# Altium integrated library Analog Devices Data Converters Analog-to-Digital Converters.IntLib: 2404 symbols (part 261 of 346)
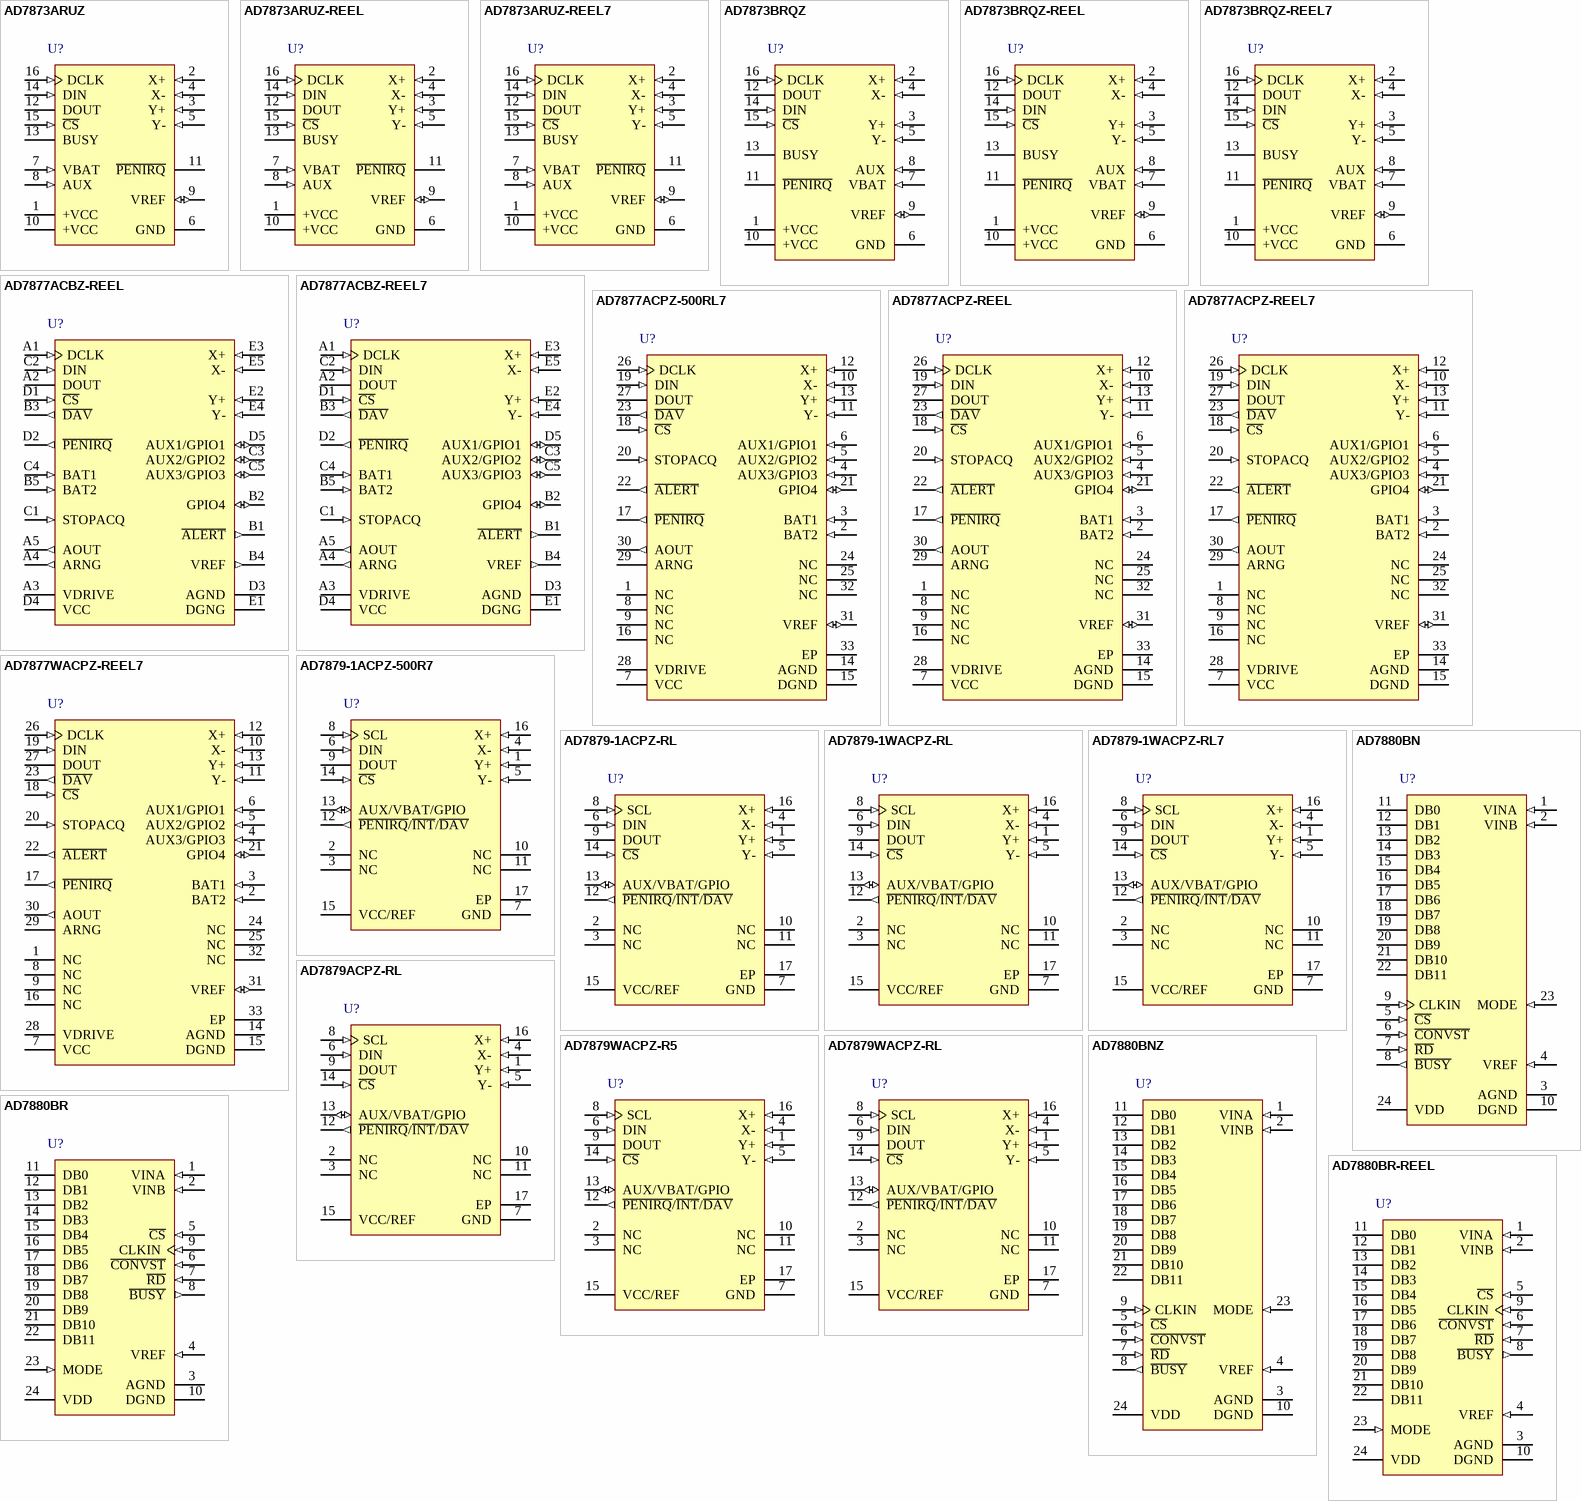
[diagram p393: symbols AD7873ARUZ to AD7880BR-REEL]

## AD7879ACPZ-RL
designator U?
6 Channel 12-Bit Analog-to-Digital Converter for Touch Screens with I2C/Ser 2-Wire, Serial, SPI Interface, 105KSPS, -40 to +85 degC, CP-16-10, Pb-Free, Reel; Generic Part Number: AD7879; Manufacturer: Analog Devices; PartNumber: AD7879ACPZ-RL; Resolution (Bits): 12; Channels: 6; Throughput Rate (SPS): 105K; Interface: I2C/Ser 2-Wire, Ser, SPI; DatasheetVersion: Rev.C; PackageVersion: 010606-0; PackageReference: CP-16-10; PackageDescription: 16-Lead Lead Frame Chip Scale Package [LFCSP_VQ] 4 x 4 mm Body, Very Thin Quad; Supplier 1: Digi-Key; Supplier Part Number 1: AD7879ACPZ-RLTR-ND; Supplier 2: Digi-Key; Supplier Part Number 2: AD7879ACPZ-RLCT-ND; Supplier 3: Digi-Key; Supplier Part Number 3: AD7879ACPZ-RLDKR-ND; Supplier 4: Newark; Supplier Part Number 4: 34P3199; Supplier 5: Mouser; Supplier Part Number 5: 584-AD7879ACPZ-R; RoHS: Y; Packing: Reel; Mounting Technology: Surface Mount; Code_JEDEC: MO-220-VGGC; ComponentLink1Description: Manufacturer URL; ComponentLink1URL: http://www.analog.com/en/index.html; ComponentLink2Description: Datasheet; ComponentLink2URL: http://www.analog.com/static/imported-files/data_sheets/AD7879_7889.pdf; ComponentLink3Description: Package Specification; ComponentLink3URL: http://www.analog.com/static/imported-files/packages/PKG_PDF/LFCSP(CP)/CP_16_10.pdf; ComponentLink4Description: Product URL; ComponentLink4URL: http://www.analog.com/en/analog-to-digital-converters/ad-converters/ad7879/products/product.html
footprint CP-16-10_N (QFN, 16-Leads, Body 4x4mm, Pitch 0.65mm, Thermal Pad 2.35x2.35mm, IPC Medium Density)
footprint CP-16-10_L (QFN, 16-Leads, Body 4x4mm, Pitch 0.65mm, Thermal Pad 2.35x2.35mm, IPC High Density)
footprint CP-16-10_M (QFN, 16-Leads, Body 4x4mm, Pitch 0.65mm, Thermal Pad 2.35x2.35mm, IPC Low Density)
pins: 1 Y+ (in) "Touch Screen Input Channel.", 2 NC "No Connect.", 3 NC "No Connect.", 4 X- (in) "Touch Screen Input Channel.", 5 Y- (in) "Touch Screen Input Channel.", 6 DIN (in) "SPI Serial Data Input to the AD7879.", 7 GND (power) "Ground. Ground reference point for all circuitry on the AD7879. All analog input signals and any external reference signal should be referred to this voltage.", 8 SCL (in) "Serial Interface Clock Input.", 9 DOUT (hiz) "SPI Serial Data Output for the AD7879.", 10 NC "No Connect.", 11 NC "No Connect.", 12 ~{PENIRQ}/~{INT}/~{DAV} (out) "Interrupt Output. This pin is asserted when the screen is touched (P\E\N\I\R\Q\), when a measurement exceeds the preprogrammed limits (I\N\T\), or when new data is available in the registers (D\A\V\). Active low, internal 50 (See Datasheet)", 13 AUX/VBAT/GPIO (io) "This pin can be programmed as an auxiliary input to the ADC (AUX), as a battery measurement input to the ADC (VBAT ), or as a general-purpose digital input/output (GPIO).", 14 ~{CS} (in) "Chip Select for the SPI Serial Interface on the AD7879. Active low.", 15 VCC/REF (power) "Power Supply Input and ADC Reference.", 16 X+ (in) "Touch Screen Input Channel.", 17 EP (power) "Exposed Pad. The exposed pad is not connected internally. For increased reliability of the solder joints and maximum thermal capability, it is recommended that the pad be soldered to the ground plane."

## AD7879WACPZ-R5
designator U?
6 Channel 12-Bit Analog-to-Digital Converter for Touch Screens with I2C/Ser 2-Wire, Serial, SPI Interface, 105KSPS, -40 to +85 degC, CP-16-10, Pb-Free, Reel; Generic Part Number: AD7879; Manufacturer: Analog Devices; PartNumber: AD7879WACPZ-R5; Resolution (Bits): 12; Channels: 6; Throughput Rate (SPS): 105K; Interface: I2C/Ser 2-Wire, Ser, SPI; DatasheetVersion: Rev.C; PackageVersion: 010606-0; PackageReference: CP-16-10; PackageDescription: 16-Lead Lead Frame Chip Scale Package [LFCSP_VQ] 4 x 4 mm Body, Very Thin Quad; Supplier 1: Mouser; Supplier Part Number 1: N/A; RoHS: Y; Packing: Reel; Mounting Technology: Surface Mount; Code_JEDEC: MO-220-VGGC; ComponentLink1Description: Manufacturer URL; ComponentLink1URL: http://www.analog.com/en/index.html; ComponentLink2Description: Datasheet; ComponentLink2URL: http://www.analog.com/static/imported-files/data_sheets/AD7879_7889.pdf; ComponentLink3Description: Package Specification; ComponentLink3URL: http://www.analog.com/static/imported-files/packages/PKG_PDF/LFCSP(CP)/CP_16_10.pdf; ComponentLink4Description: Product URL; ComponentLink4URL: http://www.analog.com/en/analog-to-digital-converters/ad-converters/ad7879/products/product.html
footprint CP-16-10_N (QFN, 16-Leads, Body 4x4mm, Pitch 0.65mm, Thermal Pad 2.35x2.35mm, IPC Medium Density)
footprint CP-16-10_L (QFN, 16-Leads, Body 4x4mm, Pitch 0.65mm, Thermal Pad 2.35x2.35mm, IPC High Density)
footprint CP-16-10_M (QFN, 16-Leads, Body 4x4mm, Pitch 0.65mm, Thermal Pad 2.35x2.35mm, IPC Low Density)
pins: 1 Y+ (in) "Touch Screen Input Channel.", 2 NC "No Connect.", 3 NC "No Connect.", 4 X- (in) "Touch Screen Input Channel.", 5 Y- (in) "Touch Screen Input Channel.", 6 DIN (in) "SPI Serial Data Input to the AD7879.", 7 GND (power) "Ground. Ground reference point for all circuitry on the AD7879. All analog input signals and any external reference signal should be referred to this voltage.", 8 SCL (in) "Serial Interface Clock Input.", 9 DOUT (hiz) "SPI Serial Data Output for the AD7879.", 10 NC "No Connect.", 11 NC "No Connect.", 12 ~{PENIRQ}/~{INT}/~{DAV} (out) "Interrupt Output. This pin is asserted when the screen is touched (P\E\N\I\R\Q\), when a measurement exceeds the preprogrammed limits (I\N\T\), or when new data is available in the registers (D\A\V\). Active low, internal 50 (See Datasheet)", 13 AUX/VBAT/GPIO (io) "This pin can be programmed as an auxiliary input to the ADC (AUX), as a battery measurement input to the ADC (VBAT ), or as a general-purpose digital input/output (GPIO).", 14 ~{CS} (in) "Chip Select for the SPI Serial Interface on the AD7879. Active low.", 15 VCC/REF (power) "Power Supply Input and ADC Reference.", 16 X+ (in) "Touch Screen Input Channel.", 17 EP (power) "Exposed Pad. The exposed pad is not connected internally. For increased reliability of the solder joints and maximum thermal capability, it is recommended that the pad be soldered to the ground plane."

## AD7879WACPZ-RL
designator U?
6 Channel 12-Bit Analog-to-Digital Converter for Touch Screens with I2C/Ser 2-Wire, Serial, SPI Interface, 105KSPS, -40 to +85 degC, CP-16-10, Pb-Free, Reel; Generic Part Number: AD7879; Manufacturer: Analog Devices; PartNumber: AD7879WACPZ-RL; Resolution (Bits): 12; Channels: 6; Throughput Rate (SPS): 105K; Interface: I2C/Ser 2-Wire, Ser, SPI; DatasheetVersion: Rev.C; PackageVersion: 010606-0; PackageReference: CP-16-10; PackageDescription: 16-Lead Lead Frame Chip Scale Package [LFCSP_VQ] 4 x 4 mm Body, Very Thin Quad; Supplier 1: Mouser; Supplier Part Number 1: N/A; RoHS: Y; Packing: Reel; Mounting Technology: Surface Mount; Code_JEDEC: MO-220-VGGC; ComponentLink1Description: Manufacturer URL; ComponentLink1URL: http://www.analog.com/en/index.html; ComponentLink2Description: Datasheet; ComponentLink2URL: http://www.analog.com/static/imported-files/data_sheets/AD7879_7889.pdf; ComponentLink3Description: Package Specification; ComponentLink3URL: http://www.analog.com/static/imported-files/packages/PKG_PDF/LFCSP(CP)/CP_16_10.pdf; ComponentLink4Description: Product URL; ComponentLink4URL: http://www.analog.com/en/analog-to-digital-converters/ad-converters/ad7879/products/product.html
footprint CP-16-10_N (QFN, 16-Leads, Body 4x4mm, Pitch 0.65mm, Thermal Pad 2.35x2.35mm, IPC Medium Density)
footprint CP-16-10_L (QFN, 16-Leads, Body 4x4mm, Pitch 0.65mm, Thermal Pad 2.35x2.35mm, IPC High Density)
footprint CP-16-10_M (QFN, 16-Leads, Body 4x4mm, Pitch 0.65mm, Thermal Pad 2.35x2.35mm, IPC Low Density)
pins: 1 Y+ (in) "Touch Screen Input Channel.", 2 NC "No Connect.", 3 NC "No Connect.", 4 X- (in) "Touch Screen Input Channel.", 5 Y- (in) "Touch Screen Input Channel.", 6 DIN (in) "SPI Serial Data Input to the AD7879.", 7 GND (power) "Ground. Ground reference point for all circuitry on the AD7879. All analog input signals and any external reference signal should be referred to this voltage.", 8 SCL (in) "Serial Interface Clock Input.", 9 DOUT (hiz) "SPI Serial Data Output for the AD7879.", 10 NC "No Connect.", 11 NC "No Connect.", 12 ~{PENIRQ}/~{INT}/~{DAV} (out) "Interrupt Output. This pin is asserted when the screen is touched (P\E\N\I\R\Q\), when a measurement exceeds the preprogrammed limits (I\N\T\), or when new data is available in the registers (D\A\V\). Active low, internal 50 (See Datasheet)", 13 AUX/VBAT/GPIO (io) "This pin can be programmed as an auxiliary input to the ADC (AUX), as a battery measurement input to the ADC (VBAT ), or as a general-purpose digital input/output (GPIO).", 14 ~{CS} (in) "Chip Select for the SPI Serial Interface on the AD7879. Active low.", 15 VCC/REF (power) "Power Supply Input and ADC Reference.", 16 X+ (in) "Touch Screen Input Channel.", 17 EP (power) "Exposed Pad. The exposed pad is not connected internally. For increased reliability of the solder joints and maximum thermal capability, it is recommended that the pad be soldered to the ground plane."

## AD7880BN
designator U?
Single 12-Bit Sampling Low Power Analog-to-Digital Converter with Parallel Interface, LC2MOS, LC2MOS Single +5 V 66KSPS, -40 to +85 degC, N-24-1, Tube; Generic Part Number: AD7880; Manufacturer: Analog Devices; PartNumber: AD7880BN; Resolution (Bits): 12; Channels: 1; Throughput Rate (SPS): 66K; Interface: Par; DatasheetVersion: Rev.0; PackageVersion: 071006-A; PackageReference: N-24-1; PackageDescription: 24-Lead Plastic Dual In-Line Package [PDIP] Narrow Body; Supplier 1: Digi-Key; Supplier Part Number 1: AD7880BN-ND; Supplier 2: Mouser; Supplier Part Number 2: 584-AD7880BN; RoHS: N; Packing: Tube; Mounting Technology: Through-hole; Code_JEDEC: MS-001; ComponentLink1Description: Manufacturer URL; ComponentLink1URL: http://www.analog.com/en/index.html; ComponentLink2Description: Datasheet; ComponentLink2URL: http://www.analog.com/static/imported-files/data_sheets/AD7880.pdf; ComponentLink3Description: Package Specification; ComponentLink3URL: http://www.analog.com/static/imported-files/packages/50726455539629N_24_1.pdf; ComponentLink4Description: Product URL; ComponentLink4URL: http://www.analog.com/en/analog-to-digital-converters/ad-converters/ad7880/products/product.html
footprint N-24-1 (DIP, 24-Leads, Row Spacing 7.62mm, Pitch 2.54mm, Body 31.9x6.6mm)
pins: 1 VINA (in) "Analog Input.", 2 VINB (in) "Analog Input.", 3 AGND (power) "Analog Ground.", 4 VREF (in) "Voltage Reference Input. This is normally tied to VDD.", 5 ~{CS} (in) "Chip Select. Active Low Logic input. The device is selected when this input is active.", 6 ~{CONVST} (in) "Convert Start. A low to high transition on this input puts the track/hold into hold mode and starts conversion. This input is asynchronous to the CLKIN and is independent of C\S\ and R\D\.", 7 ~{RD} (in) "Read. Active Low Logic Input. This input is used in conjunction with C\S\ low to enable data outputs", 8 ~{BUSY} (out) "Active Low Logic Output. This status line indicates converter status. B\U\S\Y\ is low during conversion.", 9 CLKIN (in) "Clock Input. TTL-compatible logic input. Used as the clock source for the A/D converter. The mark/space ratio of the clock can vary from 40/60 to 60/40.", 10 DGND (power) "Digital Ground.", 11 DB0 (hiz) "Three-State Data Outputs. These become active when C\S\ and R\D\ are brought low.", 12 DB1 (hiz) "Three-State Data Outputs. These become active when C\S\ and R\D\ are brought low.", 13 DB2 (hiz) "Three-State Data Outputs. These become active when C\S\ and R\D\ are brought low.", 14 DB3 (hiz) "Three-State Data Outputs. These become active when C\S\ and R\D\ are brought low.", 15 DB4 (hiz) "Three-State Data Outputs. These become active when C\S\ and R\D\ are brought low.", 16 DB5 (hiz) "Three-State Data Outputs. These become active when C\S\ and R\D\ are brought low.", 17 DB6 (hiz) "Three-State Data Outputs. These become active when C\S\ and R\D\ are brought low.", 18 DB7 (hiz) "Three-State Data Outputs. These become active when C\S\ and R\D\ are brought low.", 19 DB8 (hiz) "Three-State Data Outputs. These become active when C\S\ and R\D\ are brought low.", 20 DB9 (hiz) "Three-State Data Outputs. These become active when C\S\ and R\D\ are brought low.", 21 DB10 (hiz) "Three-State Data Outputs. These become active when C\S\ and R\D\ are brought low.", 22 DB11 (hiz) "Three-State Data Outputs. These become active when C\S\ and R\D\ are brought low.", 23 MODE (in) "MODE Input. This input is used to put the device into the power save mode (MODE = 0 V). During normal operation, the MODE input will be a logic high (MODE = VDD).", 24 VDD (power) "Power Supply. This is nominally +5 V."

## AD7880BNZ
designator U?
Single 12-Bit Sampling Low Power Analog-to-Digital Converter with Parallel Interface, LC2MOS, LC2MOS Single +5 V 66KSPS, -40 to +85 degC, N-24-1, Pb-Free, Tube; Generic Part Number: AD7880; Manufacturer: Analog Devices; PartNumber: AD7880BNZ; Resolution (Bits): 12; Channels: 1; Throughput Rate (SPS): 66K; Interface: Par; DatasheetVersion: Rev.0; PackageVersion: 071006-A; PackageReference: N-24-1; PackageDescription: 24-Lead Plastic Dual In-Line Package [PDIP] Narrow Body; Supplier 1: Digi-Key; Supplier Part Number 1: AD7880BNZ-ND; Supplier 2: Farnell; Supplier Part Number 2: 1079289; Supplier 3: Newark; Supplier Part Number 3: 31M4391; Supplier 4: Mouser; Supplier Part Number 4: 584-AD7880BNZ; RoHS: Y; Packing: Tube; Mounting Technology: Through-hole; Code_JEDEC: MS-001; ComponentLink1Description: Manufacturer URL; ComponentLink1URL: http://www.analog.com/en/index.html; ComponentLink2Description: Datasheet; ComponentLink2URL: http://www.analog.com/static/imported-files/data_sheets/AD7880.pdf; ComponentLink3Description: Package Specification; ComponentLink3URL: http://www.analog.com/static/imported-files/packages/50726455539629N_24_1.pdf; ComponentLink4Description: Product URL; ComponentLink4URL: http://www.analog.com/en/analog-to-digital-converters/ad-converters/ad7880/products/product.html
footprint N-24-1 (DIP, 24-Leads, Row Spacing 7.62mm, Pitch 2.54mm, Body 31.9x6.6mm)
pins: 1 VINA (in) "Analog Input.", 2 VINB (in) "Analog Input.", 3 AGND (power) "Analog Ground.", 4 VREF (in) "Voltage Reference Input. This is normally tied to VDD.", 5 ~{CS} (in) "Chip Select. Active Low Logic input. The device is selected when this input is active.", 6 ~{CONVST} (in) "Convert Start. A low to high transition on this input puts the track/hold into hold mode and starts conversion. This input is asynchronous to the CLKIN and is independent of C\S\ and R\D\.", 7 ~{RD} (in) "Read. Active Low Logic Input. This input is used in conjunction with C\S\ low to enable data outputs", 8 ~{BUSY} (out) "Active Low Logic Output. This status line indicates converter status. B\U\S\Y\ is low during conversion.", 9 CLKIN (in) "Clock Input. TTL-compatible logic input. Used as the clock source for the A/D converter. The mark/space ratio of the clock can vary from 40/60 to 60/40.", 10 DGND (power) "Digital Ground.", 11 DB0 (hiz) "Three-State Data Outputs. These become active when C\S\ and R\D\ are brought low.", 12 DB1 (hiz) "Three-State Data Outputs. These become active when C\S\ and R\D\ are brought low.", 13 DB2 (hiz) "Three-State Data Outputs. These become active when C\S\ and R\D\ are brought low.", 14 DB3 (hiz) "Three-State Data Outputs. These become active when C\S\ and R\D\ are brought low.", 15 DB4 (hiz) "Three-State Data Outputs. These become active when C\S\ and R\D\ are brought low.", 16 DB5 (hiz) "Three-State Data Outputs. These become active when C\S\ and R\D\ are brought low.", 17 DB6 (hiz) "Three-State Data Outputs. These become active when C\S\ and R\D\ are brought low.", 18 DB7 (hiz) "Three-State Data Outputs. These become active when C\S\ and R\D\ are brought low.", 19 DB8 (hiz) "Three-State Data Outputs. These become active when C\S\ and R\D\ are brought low.", 20 DB9 (hiz) "Three-State Data Outputs. These become active when C\S\ and R\D\ are brought low.", 21 DB10 (hiz) "Three-State Data Outputs. These become active when C\S\ and R\D\ are brought low.", 22 DB11 (hiz) "Three-State Data Outputs. These become active when C\S\ and R\D\ are brought low.", 23 MODE (in) "MODE Input. This input is used to put the device into the power save mode (MODE = 0 V). During normal operation, the MODE input will be a logic high (MODE = VDD).", 24 VDD (power) "Power Supply. This is nominally +5 V."